# Altium footprint library HZ ChMic4501_1013.PcbLib: 52 footprints (part 2 of 4)
Each footprint in its own frame and in the unit in brackets; x right, y up, seen from the top. Pads: shape width x height; smd on the part's side, far side on the other; paste and mask are expansions set on the pad; w line width, h text height; cw(c..) or ccw(c..) is an arc to the next point about the centre after c.
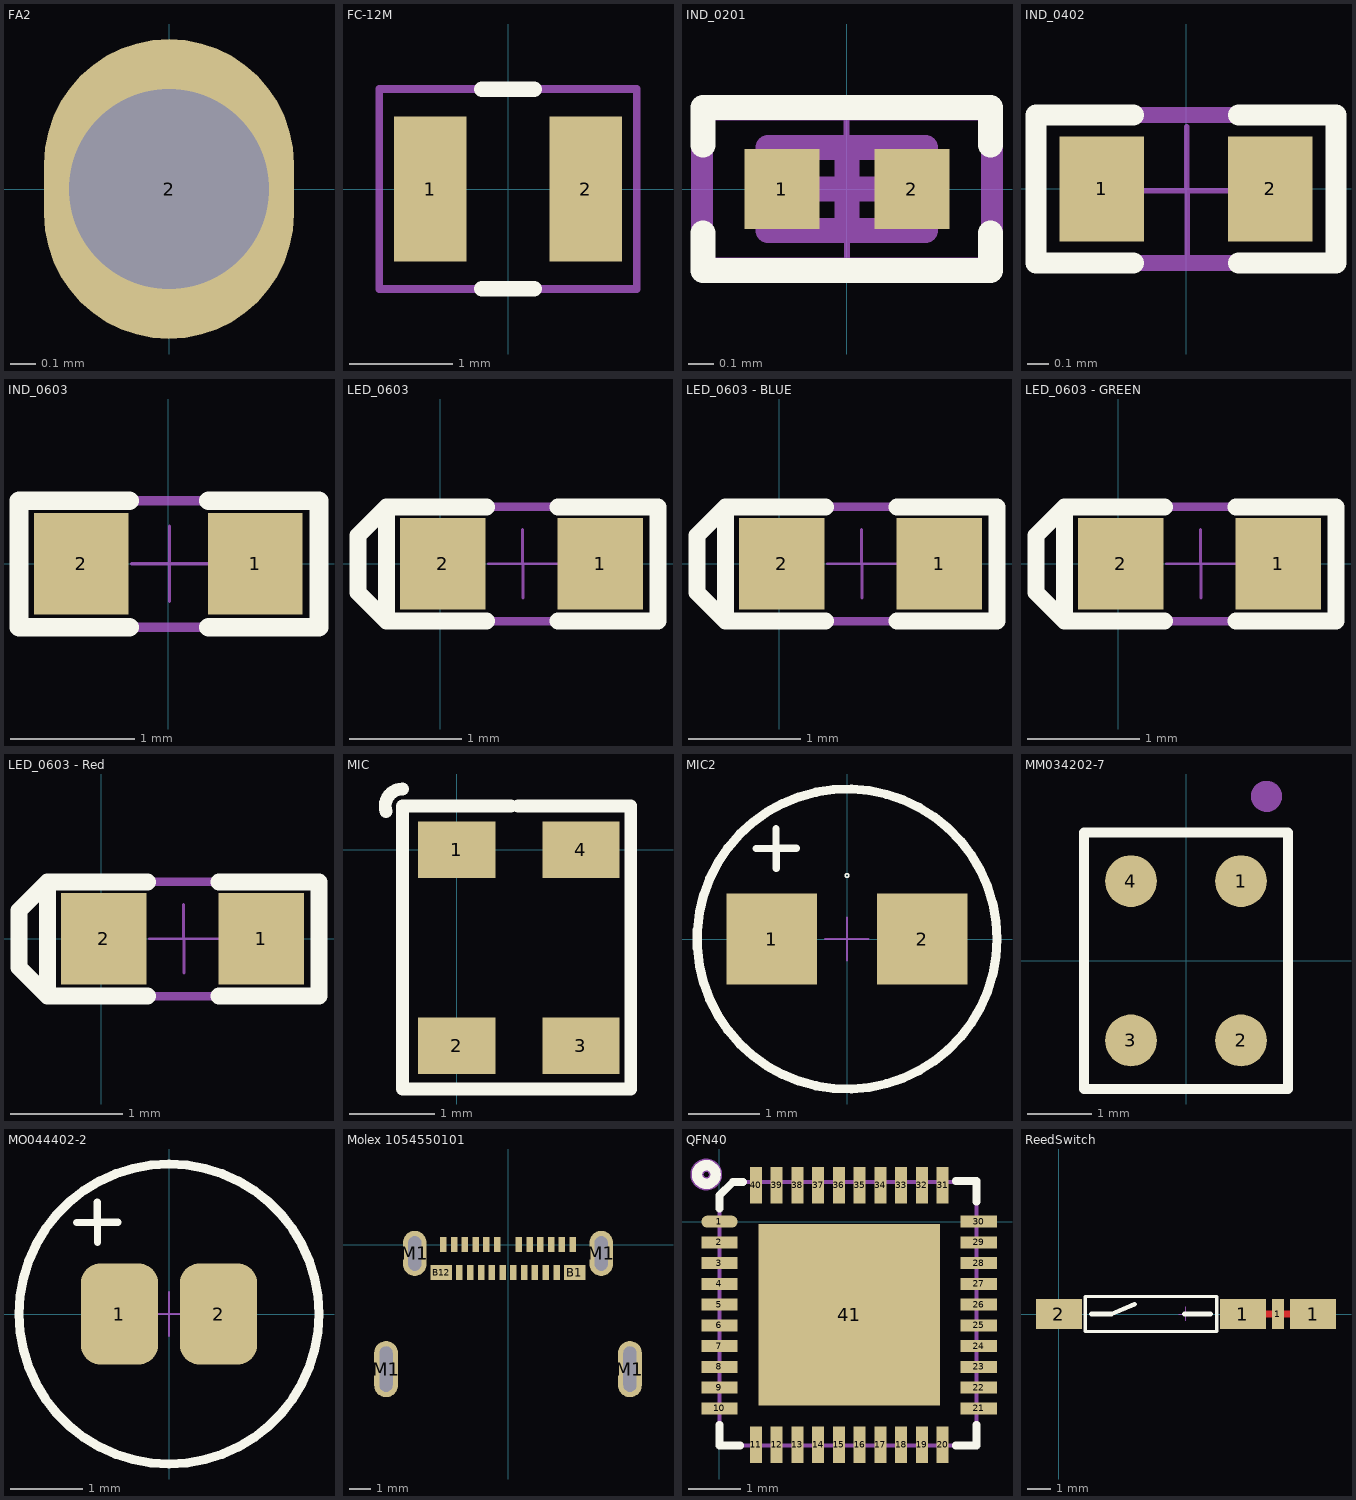
[diagram p1: the footprints below, top view; thin cyan lines are the x and y axes]

## FA2 [mm]
pads (1):
  oval 1x1.2 hole 0.8: 2(0,0)

## FC-12M [mm]
pads (2):
  rect 0.7x1.4 smd: 1(-0.75,0) 2(0.75,0)
Top Overlay:
  lines w0.152: -0.254,-0.965 0.254,-0.965 ; -0.254,0.965 0.254,0.965
Top Mechanical 20/Mechanical 21 (Mech20):
  lines w0.076: -1.245,-0.965 -1.245,0.965 1.245,0.965 1.245,-0.965 0.254,-0.965 -0.254,-0.965 -1.245,-0.965
3D body "FC-12M.STEP": height 0.61, standoff 0.01, extent -1.025,-0.6 1.025,0.6

## IND_0201 [mm] "Chip Inductor, 2-Leads, Body 0.60x0.30mm, IPC High Density"
height 0.33
pads (2):
  rect 0.3x0.32 smd: 1(-0.26,0) 2(0.26,0)
Top Overlay:
  lines w0.1: -0.575,-0.175 -0.575,-0.325 0.575,-0.325 0.575,-0.175 ; -0.575,0.175 -0.575,0.325 0.575,0.325 0.575,0.175
Mechanical 7:
  lines w0.025: -0.307,0 -0.002,0 ; -0.002,0.305 -0.002,0 ; 0,-0.303 0,0.002 ; 0.303,0 -0.002,0
Mechanical 13:
  lines w0.1: -0.315,-0.165 0.315,-0.165 0.315,0.165 -0.315,0.165 -0.315,-0.165
Mechanical 15:
  lines w0.05: -0.6,-0.3 0.6,-0.3 0.6,0.3 -0.6,0.3 -0.6,-0.3
  lines w0.1: -0.165,0 0.165,0 ; 0,-0.165 0,0.165
Top Mechanical 20/Mechanical 21 (Mech20):
  lines w0.076: -0.575,-0.325 -0.575,0.325 0.575,0.325 0.575,0.3 0.575,-0.325 -0.575,-0.325
3D body "CAP 0201.STEP": height 0.3, standoff 0, extent -0.3,-0.15 0.3,0.15

## IND_0402 [mm]
pads (2):
  rect 0.4x0.5 smd: 1(-0.4,0) 2(0.4,0)
Top Overlay:
  lines w0.1: -0.25,-0.35 -0.711,-0.35 -0.711,0.35 -0.25,0.35 ; 0.25,-0.35 0.711,-0.35 0.711,0.35 0.25,0.35
Mechanical 7:
  lines w0.025: -0.302,-0.009 0.003,-0.009 ; 0.003,0.296 0.003,-0.009 ; 0.005,-0.312 0.005,-0.007 ; 0.308,-0.009 0.003,-0.009
Top Mechanical 20/Mechanical 21 (Mech20):
  lines w0.076: -0.711,-0.35 0.711,-0.35 0.711,0.35 -0.711,0.35 -0.711,-0.35
3D body "82307050029.stp": height 0.52, standoff 0.02, extent -0.495,-0.259 0.505,0.241

## IND_0603 [mil]
pads (2):
  rect 30x32 smd: 1(27.56,0) 2(-27.56,0)
Top Overlay:
  lines w5.91: -12.25,-20.08 -47.25,-20.08 -47.25,19.92 -12.25,19.92 ; 12.75,-20.08 47.75,-20.08 47.75,19.92 12.75,19.92
Mechanical 7:
  lines w1: -11.63,0 0.37,0 ; 0.37,12 0.37,0 ; 0.46,-11.93 0.46,0.07 ; 12.37,0 0.37,0
Top Mechanical 20/Mechanical 21 (Mech20):
  lines w3: 47.75,-20.08 -47.25,-20.08 -47.25,19.92 47.75,19.92 47.75,-20.08 ; 47.75,-20.08 47.75,-20.08
3D body "Ceramic_Capacitor_0603_h32mil.step": height 31.89, standoff 0.39, extent -31.03,-15.62 31.96,15.88

## LED_0603 [mil]
pads (2):
  rect 30x32 smd: 1(56.1,0) 2(0.98,0)
Top Overlay:
  lines w5.91: 16.29,-20.08 -18.71,-20.08 ; 16.29,19.92 -18.71,19.92 ; 41.29,-20.08 76.29,-20.08 76.29,19.92 41.29,19.92 ; -18.71,-20.08 -18.71,19.92 ; -18.71,-20.08 -28.71,-10.08 -28.71,9.92 -18.71,19.92
Mechanical 7:
  lines w1: 16.91,0 28.91,0 ; 28.91,12 28.91,0 ; 29,-11.93 29,0.07 ; 40.91,0 28.91,0
Top Mechanical 20/Mechanical 21 (Mech20):
  lines w3: -18.71,-20.08 -18.71,-20.08 ; -18.71,-20.08 -28.71,-10.08 -28.71,9.92 -18.71,19.92 ; -18.71,-20.08 -18.71,19.92 ; -18.71,-20.08 -18.71,-20.08 ; -18.71,-20.08 76.29,-20.08 76.29,19.92 -18.71,19.92

## LED_0603 - BLUE [mil]
pads (2):
  rect 30x32 smd: 1(56.1,0) 2(0.98,0)
Top Overlay:
  lines w5.91: 16.29,-20.08 -18.71,-20.08 ; 16.29,19.92 -18.71,19.92 ; 41.29,-20.08 76.29,-20.08 76.29,19.92 41.29,19.92 ; -18.71,-20.08 -18.71,19.92 ; -18.71,-20.08 -28.71,-10.08 -28.71,9.92 -18.71,19.92
Mechanical 7:
  lines w1: 16.91,0 28.91,0 ; 28.91,12 28.91,0 ; 29,-11.93 29,0.07 ; 40.91,0 28.91,0
Top Mechanical 20/Mechanical 21 (Mech20):
  lines w3: -18.71,-20.08 -18.71,-20.08 ; -18.71,-20.08 -28.71,-10.08 -28.71,9.92 -18.71,19.92 ; -18.71,-20.08 -18.71,19.92 ; -18.71,-20.08 -18.71,-20.08 ; -18.71,-20.08 76.29,-20.08 76.29,19.92 -18.71,19.92
3D body "User Library-LED_0603_B.STEP": height 23.62, standoff -0.08, extent -2.5,-15.75 60.5,15.75

## LED_0603 - GREEN [mil]
pads (2):
  rect 30x32 smd: 1(56.1,0) 2(0.98,0)
Top Overlay:
  lines w5.91: 16.29,-20.08 -18.71,-20.08 ; 16.29,19.92 -18.71,19.92 ; 41.29,-20.08 76.29,-20.08 76.29,19.92 41.29,19.92 ; -18.71,-20.08 -18.71,19.92 ; -18.71,-20.08 -28.71,-10.08 -28.71,9.92 -18.71,19.92
Mechanical 7:
  lines w1: 16.91,0 28.91,0 28.91,12 ; 29,-11.93 29,0 40.91,0
Top Mechanical 20/Mechanical 21 (Mech20):
  lines w3: -28.71,-10.08 -18.71,-20.08 ; -28.71,-10.08 -28.71,-10.08 ; -28.71,-10.08 -28.71,9.92 -18.71,19.92 ; -18.71,-20.08 -18.71,19.92 ; -18.71,-20.08 76.29,-20.08 76.29,19.92 -18.71,19.92
3D body "User Library-LED_0603_G.STEP": height 23.62, standoff -0.08, extent -2.5,-15.75 60.5,15.75

## LED_0603 - Red [mil]
pads (2):
  rect 30x32 smd: 1(56.1,0) 2(0.98,0)
Top Overlay:
  lines w5.91: 16.29,-20.08 -18.71,-20.08 ; 16.29,19.92 -18.71,19.92 ; 41.29,-20.08 76.29,-20.08 76.29,19.92 41.29,19.92 ; -18.71,-20.08 -28.71,-10.08 -28.71,9.92 -18.71,19.92 ; -18.71,-20.08 -18.71,19.92
Mechanical 7:
  lines w1: 16.91,0 28.91,0 ; 28.91,12 28.91,0 ; 29,-11.93 29,0.07 ; 40.91,0 28.91,0
Top Mechanical 20/Mechanical 21 (Mech20):
  lines w3: -28.71,-10.08 -28.71,9.92 -18.71,19.92 ; -28.71,-10.08 -28.71,-10.08 ; -28.71,-10.08 -18.71,-20.08 ; -18.71,-20.08 -18.71,19.92 ; -18.71,-20.08 -18.71,-20.08 ; -18.71,-20.08 76.29,-20.08 76.29,19.92 -18.71,19.92
3D body "User Library-LED_0603_R.STEP": height 23.62, standoff -0.08, extent -2.5,-15.75 60.5,15.75

## MIC [mm]
pads (4):
  rect 0.9x0.66 smd: 1(0,0) 2(0,-2.29) 3(1.45,-2.29) 4(1.45,0)
Top Overlay:
  lines w0.15: -0.825,0.445 cw(c-0.635,0.508) -0.635,0.708 ; 0.636,0.508 -0.635,0.508 -0.635,-2.794 2.032,-2.794 2.032,0.508 0.714,0.508

## MIC2 [mil]
pads (2):
  rect 50x50 smd: 1(-41.5,0) 2(41.5,0)
Top Overlay:
  circle w5: c0,0 r82.68
  circle w1: c0,35 r1
  lines w4: -50.2,49.87 -39.2,49.87 ; -39.13,49.87 -39.13,60.87 ; -39,39 -39,50 -28,50
Mechanical 7:
  lines w1: -12.09,0 -0.09,0 ; -0.09,12 -0.09,0 ; 0,-11.93 0,0.07 ; 11.91,0 -0.09,0

## MM034202-7 [mm]
pads (4):
  round 0.8 smd: 1(0.85,1.23) 2(0.85,-1.23) 3(-0.85,-1.23) 4(-0.85,1.23)
Top Overlay:
  lines w0.152: -1.575,-1.981 -1.575,1.981 1.575,1.981 1.575,-1.981 -1.575,-1.981
Top Mechanical 20/Mechanical 21 (Mech20):
  circle w0.254: c1.245,2.54 r0.114
  lines w0.076: -1.575,-1.981 1.575,-1.981 1.575,1.981 -1.575,1.981 -1.575,-1.981
3D body "microphone.STEP": height 1.23, standoff 0.08, extent -1.473,-1.88 1.477,1.88

## MO044402-2 [mil]
pads (2):
  rrect50% 42x55.12 smd: 1(-27,0) 2(27,0)
Top Overlay:
  circle w5: c0,0 r81.74
  lines w4: -50.2,49.87 -39.2,49.87 ; -39.13,49.87 -39.13,60.87 ; -39,39 -39,50 -28,50
Mechanical 7:
  lines w1: -12.09,0 -0.09,0 ; -0.09,12 -0.09,0 ; 0,-11.93 0,0.07 ; 11.91,0 -0.09,0
3D body "_media_ThreeDModel_TOM-1545L-R.stp": height 67.42, standoff -1.09, extent -78.74,-78.74 78.74,78.74

## Molex 1054550101 [mm] "USB-C"
pads (28):
  rect 0.3x0.7 smd: A1(-3,0) A2(-2.5,0) A3(-2,0) A4(-1.5,0) A5(-1,0) A6(-0.5,0) A7(0.5,0) A8(1,0) A9(1.5,0) A10(2,0) A11(2.5,0) A12(3,0) B2(2.25,-1.3) B3(1.75,-1.3) B4(1.25,-1.3) B5(0.75,-1.3) B6(0.25,-1.3) B7(-0.25,-1.3) B8(-0.75,-1.3) B9(-1.25,-1.3) B10(-1.75,-1.3) B11(-2.25,-1.3)
  rect 1x0.7 smd: B1(3.1,-1.3) B12(-3.1,-1.3)
  oval 1.1x2.6 hole 0.6 slot 2.1 at 90 deg: M1(-5.65,-5.77) M1(5.65,-5.77)
  oval 1.1x2.1 hole 0.6 slot 1.6 at 90 deg: M1(-4.32,-0.41) M1(4.32,-0.41)
3D body "1054550101.stp": height 2.21, standoff -0.95, extent -5.81,-7.7 5.79,0.2

## QFN40 [mm]
pads (41):
  oval 0.7x0.23 smd: 1(0,0)
  rect 0.7x0.23 smd: 2(0,-0.4) 3(0,-0.8) 4(0,-1.2) 5(0,-1.6) 6(0,-2) 7(0,-2.4) 8(0,-2.8) 9(0,-3.2) 10(0,-3.6) 21(5,-3.6) 22(5,-3.2) 23(5,-2.8) 24(5,-2.4) 25(5,-2) 26(5,-1.6) 27(5,-1.2) 28(5,-0.8) 29(5,-0.4) 30(5,0)
  rect 0.23x0.7 smd: 11(0.7,-4.3) 12(1.1,-4.3) 13(1.5,-4.3) 14(1.9,-4.3) 15(2.3,-4.3) 16(2.7,-4.3) 17(3.1,-4.3) 18(3.5,-4.3) 19(3.9,-4.3) 20(4.3,-4.3) 31(4.3,0.7) 32(3.9,0.7) 33(3.5,0.7) 34(3.1,0.7) 35(2.7,0.7) 36(2.3,0.7) 37(1.9,0.7) 38(1.5,0.7) 39(1.1,0.7) 40(0.7,0.7)
  rect 3.5x3.5 smd: 41(2.5,-1.8)
Top Overlay:
  circle w0.2: c-0.254,0.908 r0.18
  lines w0.15: 0,-3.918 0,-4.318 0.4,-4.318 ; 0,0.254 0,0.508 0.254,0.762 0.454,0.762 ; 4.553,-4.318 4.953,-4.318 4.953,-3.918 ; 4.553,0.781 4.953,0.781 4.953,0.381
Mechanical 7:
  lines w0.025: 2.208,-1.829 2.512,-1.829 ; 2.512,-1.524 2.512,-1.829 ; 2.515,-2.132 2.515,-1.827 ; 2.817,-1.829 2.512,-1.829
Top Mechanical 20/Mechanical 21 (Mech20):
  circle w0.254: c-0.254,0.908 r0.18
  lines w0.076: 0,-4.318 4.953,-4.318 4.953,0.781 4.934,0.762 0.254,0.762 0,0.508 0,-4.318 ; 0,-4.318 0,-4.318
3D body "User Library-QFN 40 5x5 pitch 0_4_STEP.sldprt": height 0.61, standoff -0.03, extent -0.025,-4.288 4.995,0.732

## ReedSwitch [mm]
pads (4):
  rect 2x1.3 smd: 1(8,0) 1(11.049,0) 2(0,0)
  rect 0.508x1.3 smd: 1(9.525,0)
Top Layer:
  lines w0.305: 8,0 11.049,0
Top Overlay:
  lines w0.15: 1.143,-0.762 1.143,0.762 6.858,0.762 6.858,-0.762 1.143,-0.762
  lines w0.2: 1.397,0 2.286,0 3.282,0.427 ; 5.461,0 6.604,0
Mechanical 7:
  lines w0.025: 5.205,0 5.51,0 ; 5.51,0.305 5.51,0 ; 5.512,-0.303 5.512,0.002 ; 5.814,0 5.51,0
3D body "Aleph_NRS-701A.SLDPRT": height 2.2, standoff 0, extent -0.991,-1.179 12.009,1.221